# Altium footprint library micro-renesas.PCBLIB: 11 footprints (part 2 of 2)
Each footprint in its own frame and in the unit in brackets; x right, y up, seen from the top. Pads: shape width x height; smd on the part's side, far side on the other; paste and mask are expansions set on the pad; w line width, h text height; cw(c..) or ccw(c..) is an arc to the next point about the centre after c.
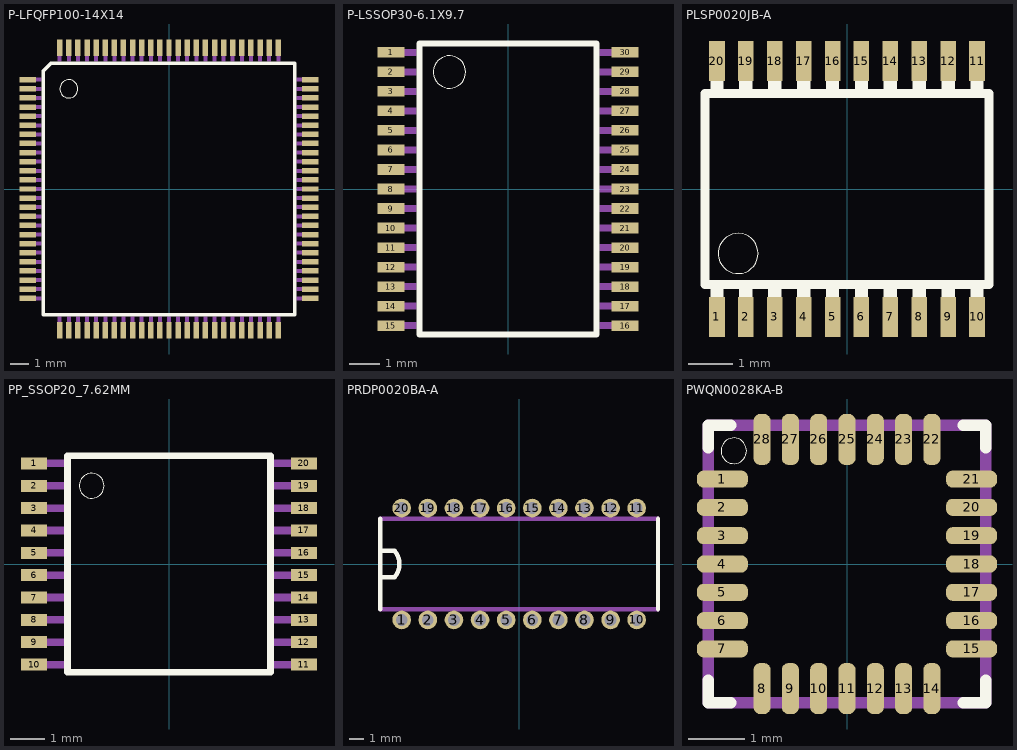
[diagram p1: the footprints below, top view; thin cyan lines are the x and y axes]

## P-LFQFP100-14X14 [mm]
pads (100):
  rect 0.9x0.3 smd: 1(-7.75,6) 2(-7.75,5.5) 3(-7.75,5) 4(-7.75,4.5) 5(-7.75,4) 6(-7.75,3.5) 7(-7.75,3) 8(-7.75,2.5) 9(-7.75,2) 10(-7.75,1.5) 11(-7.75,1) 12(-7.75,0.5) 13(-7.75,0) 14(-7.75,-0.5) 15(-7.75,-1) 16(-7.75,-1.5) 17(-7.75,-2) 18(-7.75,-2.5) 19(-7.75,-3) 20(-7.75,-3.5) 21(-7.75,-4) 22(-7.75,-4.5) 23(-7.75,-5) 24(-7.75,-5.5) 25(-7.75,-6) 51(7.75,-6) 52(7.75,-5.5) 53(7.75,-5) 54(7.75,-4.5) 55(7.75,-4) 56(7.75,-3.5) 57(7.75,-3) 58(7.75,-2.5) 59(7.75,-2) 60(7.75,-1.5) 61(7.75,-1) 62(7.75,-0.5) 63(7.75,0) 64(7.75,0.5) 65(7.75,1) 66(7.75,1.5) 67(7.75,2) 68(7.75,2.5) 69(7.75,3) 70(7.75,3.5) 71(7.75,4) 72(7.75,4.5) 73(7.75,5) 74(7.75,5.5) 75(7.75,6)
  rect 0.3x0.9 smd: 26(-6,-7.75) 27(-5.5,-7.75) 28(-5,-7.75) 29(-4.5,-7.75) 30(-4,-7.75) 31(-3.5,-7.75) 32(-3,-7.75) 33(-2.5,-7.75) 34(-2,-7.75) 35(-1.5,-7.75) 36(-1,-7.75) 37(-0.5,-7.75) 38(0,-7.75) 39(0.5,-7.75) 40(1,-7.75) 41(1.5,-7.75) 42(2,-7.75) 43(2.5,-7.75) 44(3,-7.75) 45(3.5,-7.75) 46(4,-7.75) 47(4.5,-7.75) 48(5,-7.75) 49(5.5,-7.75) 50(6,-7.75) 76(6,7.75) 77(5.5,7.75) 78(5,7.75) 79(4.5,7.75) 80(4,7.75) 81(3.5,7.75) 82(3,7.75) 83(2.5,7.75) 84(2,7.75) 85(1.5,7.75) 86(1,7.75) 87(0.5,7.75) 88(0,7.75) 89(-0.5,7.75) 90(-1,7.75) 91(-1.5,7.75) 92(-2,7.75) 93(-2.5,7.75) 94(-3,7.75) 95(-3.5,7.75) 96(-4,7.75) 97(-4.5,7.75) 98(-5,7.75) 99(-5.5,7.75) 100(-6,7.75)
Top Overlay:
  circle w0: c-5.5,5.5 r0.5
  lines w0.203: -6.898,-6.898 6.898,-6.898 6.898,6.898 -6.5,6.898 -6.898,6.5 -6.898,-6.898
Top Paste:
  rectangle: -8.175,5.863 -7.325,6.137
  rectangle: -8.175,5.362 -7.325,5.638
  rectangle: -8.175,4.863 -7.325,5.137
  rectangle: -8.175,4.362 -7.325,4.638
  rectangle: -8.175,3.863 -7.325,4.137
  rectangle: -8.175,3.362 -7.325,3.638
  rectangle: -8.175,2.863 -7.325,3.137
  rectangle: -8.175,2.362 -7.325,2.638
  rectangle: -8.175,1.863 -7.325,2.137
  rectangle: -8.175,1.362 -7.325,1.638
  rectangle: -8.175,0.863 -7.325,1.137
  rectangle: -8.175,0.362 -7.325,0.638
  rectangle: -8.175,-0.137 -7.325,0.137
  rectangle: -8.175,-0.638 -7.325,-0.362
  rectangle: -8.175,-1.137 -7.325,-0.863
  rectangle: -8.175,-1.638 -7.325,-1.362
  rectangle: -8.175,-2.137 -7.325,-1.863
  rectangle: -8.175,-2.638 -7.325,-2.362
  rectangle: -8.175,-3.137 -7.325,-2.863
  rectangle: -8.175,-3.638 -7.325,-3.362
  rectangle: -8.175,-4.137 -7.325,-3.863
  rectangle: -8.175,-4.638 -7.325,-4.362
  rectangle: -8.175,-5.137 -7.325,-4.863
  rectangle: -8.175,-5.638 -7.325,-5.362
  rectangle: -8.175,-6.137 -7.325,-5.863
  region: -5.862,-8.175 -5.862,-7.325 -6.138,-7.325 -6.138,-8.175
  region: -5.362,-8.175 -5.362,-7.325 -5.638,-7.325 -5.638,-8.175
  region: -4.862,-8.175 -4.862,-7.325 -5.138,-7.325 -5.138,-8.175
  region: -4.362,-8.175 -4.362,-7.325 -4.638,-7.325 -4.638,-8.175
  region: -3.862,-8.175 -3.862,-7.325 -4.138,-7.325 -4.138,-8.175
  region: -3.362,-8.175 -3.362,-7.325 -3.638,-7.325 -3.638,-8.175
  region: -2.862,-8.175 -2.862,-7.325 -3.138,-7.325 -3.138,-8.175
  region: -2.362,-8.175 -2.362,-7.325 -2.638,-7.325 -2.638,-8.175
  region: -1.862,-8.175 -1.862,-7.325 -2.138,-7.325 -2.138,-8.175
  region: -1.362,-8.175 -1.362,-7.325 -1.638,-7.325 -1.638,-8.175
  region: -0.862,-8.175 -0.862,-7.325 -1.138,-7.325 -1.138,-8.175
  region: -0.362,-8.175 -0.362,-7.325 -0.638,-7.325 -0.638,-8.175
  region: 0.138,-8.175 0.138,-7.325 -0.138,-7.325 -0.138,-8.175
  region: 0.638,-8.175 0.638,-7.325 0.362,-7.325 0.362,-8.175
  region: 1.138,-8.175 1.138,-7.325 0.862,-7.325 0.862,-8.175
  region: 1.638,-8.175 1.638,-7.325 1.362,-7.325 1.362,-8.175
  region: 2.138,-8.175 2.138,-7.325 1.862,-7.325 1.862,-8.175
  region: 2.638,-8.175 2.638,-7.325 2.362,-7.325 2.362,-8.175
  region: 3.138,-8.175 3.138,-7.325 2.862,-7.325 2.862,-8.175
  region: 3.638,-8.175 3.638,-7.325 3.362,-7.325 3.362,-8.175
  region: 4.138,-8.175 4.138,-7.325 3.862,-7.325 3.862,-8.175
  region: 4.638,-8.175 4.638,-7.325 4.362,-7.325 4.362,-8.175
  region: 5.138,-8.175 5.138,-7.325 4.862,-7.325 4.862,-8.175
  region: 5.638,-8.175 5.638,-7.325 5.362,-7.325 5.362,-8.175
  region: 6.138,-8.175 6.138,-7.325 5.862,-7.325 5.862,-8.175
  region: 8.175,-5.863 7.325,-5.863 7.325,-6.137 8.175,-6.137
  region: 8.175,-5.362 7.325,-5.362 7.325,-5.638 8.175,-5.638
  region: 8.175,-4.863 7.325,-4.863 7.325,-5.137 8.175,-5.137
  region: 8.175,-4.362 7.325,-4.362 7.325,-4.638 8.175,-4.638
  region: 8.175,-3.863 7.325,-3.863 7.325,-4.137 8.175,-4.137
  region: 8.175,-3.362 7.325,-3.362 7.325,-3.638 8.175,-3.638
  region: 8.175,-2.863 7.325,-2.863 7.325,-3.137 8.175,-3.137
  region: 8.175,-2.362 7.325,-2.362 7.325,-2.638 8.175,-2.638
  region: 8.175,-1.863 7.325,-1.863 7.325,-2.137 8.175,-2.137
  region: 8.175,-1.362 7.325,-1.362 7.325,-1.638 8.175,-1.638
  region: 8.175,-0.863 7.325,-0.863 7.325,-1.137 8.175,-1.137
  region: 8.175,-0.362 7.325,-0.362 7.325,-0.638 8.175,-0.638
  region: 8.175,0.137 7.325,0.137 7.325,-0.137 8.175,-0.137
  region: 8.175,0.638 7.325,0.638 7.325,0.362 8.175,0.362
  region: 8.175,1.137 7.325,1.137 7.325,0.863 8.175,0.863
  region: 8.175,1.638 7.325,1.638 7.325,1.362 8.175,1.362
  region: 8.175,2.137 7.325,2.137 7.325,1.863 8.175,1.863
  region: 8.175,2.638 7.325,2.638 7.325,2.362 8.175,2.362
  region: 8.175,3.137 7.325,3.137 7.325,2.863 8.175,2.863
  region: 8.175,3.638 7.325,3.638 7.325,3.362 8.175,3.362
  region: 8.175,4.137 7.325,4.137 7.325,3.863 8.175,3.863
  region: 8.175,4.638 7.325,4.638 7.325,4.362 8.175,4.362
  region: 8.175,5.137 7.325,5.137 7.325,4.863 8.175,4.863
  region: 8.175,5.638 7.325,5.638 7.325,5.362 8.175,5.362
  region: 8.175,6.137 7.325,6.137 7.325,5.863 8.175,5.863
  region: 5.862,8.175 5.862,7.325 6.138,7.325 6.138,8.175
  region: 5.362,8.175 5.362,7.325 5.638,7.325 5.638,8.175
  region: 4.862,8.175 4.862,7.325 5.138,7.325 5.138,8.175
  region: 4.362,8.175 4.362,7.325 4.638,7.325 4.638,8.175
  region: 3.862,8.175 3.862,7.325 4.138,7.325 4.138,8.175
  region: 3.362,8.175 3.362,7.325 3.638,7.325 3.638,8.175
  region: 2.862,8.175 2.862,7.325 3.138,7.325 3.138,8.175
  region: 2.362,8.175 2.362,7.325 2.638,7.325 2.638,8.175
  region: 1.862,8.175 1.862,7.325 2.138,7.325 2.138,8.175
  region: 1.362,8.175 1.362,7.325 1.638,7.325 1.638,8.175
  region: 0.862,8.175 0.862,7.325 1.138,7.325 1.138,8.175
  region: 0.362,8.175 0.362,7.325 0.638,7.325 0.638,8.175
  region: -0.138,8.175 -0.138,7.325 0.138,7.325 0.138,8.175
  region: -0.638,8.175 -0.638,7.325 -0.362,7.325 -0.362,8.175
  region: -1.138,8.175 -1.138,7.325 -0.862,7.325 -0.862,8.175
  region: -1.638,8.175 -1.638,7.325 -1.362,7.325 -1.362,8.175
  region: -2.138,8.175 -2.138,7.325 -1.862,7.325 -1.862,8.175
  region: -2.638,8.175 -2.638,7.325 -2.362,7.325 -2.362,8.175
  region: -3.138,8.175 -3.138,7.325 -2.862,7.325 -2.862,8.175
  region: -3.638,8.175 -3.638,7.325 -3.362,7.325 -3.362,8.175
  region: -4.138,8.175 -4.138,7.325 -3.862,7.325 -3.862,8.175
  region: -4.638,8.175 -4.638,7.325 -4.362,7.325 -4.362,8.175
  region: -5.138,8.175 -5.138,7.325 -4.862,7.325 -4.862,8.175
  region: -5.638,8.175 -5.638,7.325 -5.362,7.325 -5.362,8.175
  region: -6.138,8.175 -6.138,7.325 -5.862,7.325 -5.862,8.175
Top Solder:
  rectangle: -8.237,5.837 -7.263,6.163
  rectangle: -8.237,5.338 -7.263,5.662
  rectangle: -8.237,4.837 -7.263,5.163
  rectangle: -8.237,4.338 -7.263,4.662
  rectangle: -8.237,3.837 -7.263,4.163
  rectangle: -8.237,3.338 -7.263,3.662
  rectangle: -8.237,2.837 -7.263,3.163
  rectangle: -8.237,2.338 -7.263,2.662
  rectangle: -8.237,1.837 -7.263,2.163
  rectangle: -8.237,1.338 -7.263,1.662
  rectangle: -8.237,0.837 -7.263,1.163
  rectangle: -8.237,0.338 -7.263,0.662
  rectangle: -8.237,-0.163 -7.263,0.163
  rectangle: -8.237,-0.662 -7.263,-0.338
  rectangle: -8.237,-1.163 -7.263,-0.837
  rectangle: -8.237,-1.662 -7.263,-1.338
  rectangle: -8.237,-2.163 -7.263,-1.837
  rectangle: -8.237,-2.662 -7.263,-2.338
  rectangle: -8.237,-3.163 -7.263,-2.837
  rectangle: -8.237,-3.662 -7.263,-3.338
  rectangle: -8.237,-4.163 -7.263,-3.837
  rectangle: -8.237,-4.662 -7.263,-4.338
  rectangle: -8.237,-5.163 -7.263,-4.837
  rectangle: -8.237,-5.662 -7.263,-5.338
  rectangle: -8.237,-6.163 -7.263,-5.837
  region: -5.837,-8.237 -5.837,-7.263 -6.163,-7.263 -6.163,-8.237
  region: -5.337,-8.238 -5.337,-7.262 -5.663,-7.262 -5.663,-8.238
  region: -4.837,-8.237 -4.837,-7.263 -5.163,-7.263 -5.163,-8.237
  region: -4.337,-8.238 -4.337,-7.262 -4.663,-7.262 -4.663,-8.238
  region: -3.837,-8.237 -3.837,-7.263 -4.163,-7.263 -4.163,-8.237
  region: -3.337,-8.238 -3.337,-7.262 -3.663,-7.262 -3.663,-8.238
  region: -2.837,-8.237 -2.837,-7.263 -3.163,-7.263 -3.163,-8.237
  region: -2.337,-8.238 -2.337,-7.262 -2.663,-7.262 -2.663,-8.238
  region: -1.837,-8.237 -1.837,-7.263 -2.163,-7.263 -2.163,-8.237
  region: -1.337,-8.238 -1.337,-7.262 -1.663,-7.262 -1.663,-8.238
  region: -0.837,-8.237 -0.837,-7.263 -1.163,-7.263 -1.163,-8.237
  region: -0.337,-8.238 -0.337,-7.262 -0.663,-7.262 -0.663,-8.238
  region: 0.163,-8.237 0.163,-7.263 -0.163,-7.263 -0.163,-8.237
  region: 0.663,-8.238 0.663,-7.262 0.337,-7.262 0.337,-8.238
  region: 1.163,-8.237 1.163,-7.263 0.837,-7.263 0.837,-8.237
  region: 1.663,-8.238 1.663,-7.262 1.337,-7.262 1.337,-8.238
  region: 2.163,-8.237 2.163,-7.263 1.837,-7.263 1.837,-8.237
  region: 2.663,-8.238 2.663,-7.262 2.337,-7.262 2.337,-8.238
  region: 3.163,-8.237 3.163,-7.263 2.837,-7.263 2.837,-8.237
  region: 3.663,-8.238 3.663,-7.262 3.337,-7.262 3.337,-8.238
  region: 4.163,-8.237 4.163,-7.263 3.837,-7.263 3.837,-8.237
  region: 4.663,-8.238 4.663,-7.262 4.337,-7.262 4.337,-8.238
  region: 5.163,-8.237 5.163,-7.263 4.837,-7.263 4.837,-8.237
  region: 5.663,-8.238 5.663,-7.262 5.337,-7.262 5.337,-8.238
  region: 6.163,-8.237 6.163,-7.263 5.837,-7.263 5.837,-8.237
  region: 8.237,-5.837 7.263,-5.837 7.263,-6.163 8.237,-6.163
  region: 8.237,-5.338 7.263,-5.338 7.263,-5.662 8.237,-5.662
  region: 8.237,-4.837 7.263,-4.837 7.263,-5.163 8.237,-5.163
  region: 8.237,-4.338 7.263,-4.338 7.263,-4.662 8.237,-4.662
  region: 8.237,-3.837 7.263,-3.837 7.263,-4.163 8.237,-4.163
  region: 8.237,-3.338 7.263,-3.338 7.263,-3.662 8.237,-3.662
  region: 8.237,-2.837 7.263,-2.837 7.263,-3.163 8.237,-3.163
  region: 8.237,-2.338 7.263,-2.338 7.263,-2.662 8.237,-2.662
  region: 8.237,-1.837 7.263,-1.837 7.263,-2.163 8.237,-2.163
  region: 8.237,-1.338 7.263,-1.338 7.263,-1.662 8.237,-1.662
  region: 8.237,-0.837 7.263,-0.837 7.263,-1.163 8.237,-1.163
  region: 8.237,-0.338 7.263,-0.338 7.263,-0.662 8.237,-0.662
  region: 8.237,0.163 7.263,0.163 7.263,-0.163 8.237,-0.163
  region: 8.237,0.662 7.263,0.662 7.263,0.338 8.237,0.338
  region: 8.237,1.163 7.263,1.163 7.263,0.837 8.237,0.837
  region: 8.237,1.662 7.263,1.662 7.263,1.338 8.237,1.338
  region: 8.237,2.163 7.263,2.163 7.263,1.837 8.237,1.837
  region: 8.237,2.662 7.263,2.662 7.263,2.338 8.237,2.338
  region: 8.237,3.163 7.263,3.163 7.263,2.837 8.237,2.837
  region: 8.237,3.662 7.263,3.662 7.263,3.338 8.237,3.338
  region: 8.237,4.163 7.263,4.163 7.263,3.837 8.237,3.837
  region: 8.237,4.662 7.263,4.662 7.263,4.338 8.237,4.338
  region: 8.237,5.163 7.263,5.163 7.263,4.837 8.237,4.837
  region: 8.237,5.662 7.263,5.662 7.263,5.338 8.237,5.338
  region: 8.237,6.163 7.263,6.163 7.263,5.837 8.237,5.837
  region: 5.837,8.237 5.837,7.263 6.163,7.263 6.163,8.237
  region: 5.337,8.238 5.337,7.262 5.663,7.262 5.663,8.238
  region: 4.837,8.237 4.837,7.263 5.163,7.263 5.163,8.237
  region: 4.337,8.238 4.337,7.262 4.663,7.262 4.663,8.238
  region: 3.837,8.237 3.837,7.263 4.163,7.263 4.163,8.237
  region: 3.337,8.238 3.337,7.262 3.663,7.262 3.663,8.238
  region: 2.837,8.237 2.837,7.263 3.163,7.263 3.163,8.237
  region: 2.337,8.238 2.337,7.262 2.663,7.262 2.663,8.238
  region: 1.837,8.237 1.837,7.263 2.163,7.263 2.163,8.237
  region: 1.337,8.238 1.337,7.262 1.663,7.262 1.663,8.238
  region: 0.837,8.237 0.837,7.263 1.163,7.263 1.163,8.237
  region: 0.337,8.238 0.337,7.262 0.663,7.262 0.663,8.238
  region: -0.163,8.237 -0.163,7.263 0.163,7.263 0.163,8.237
  region: -0.663,8.238 -0.663,7.262 -0.337,7.262 -0.337,8.238
  region: -1.163,8.237 -1.163,7.263 -0.837,7.263 -0.837,8.237
  region: -1.663,8.238 -1.663,7.262 -1.337,7.262 -1.337,8.238
  region: -2.163,8.237 -2.163,7.263 -1.837,7.263 -1.837,8.237
  region: -2.663,8.238 -2.663,7.262 -2.337,7.262 -2.337,8.238
  region: -3.163,8.237 -3.163,7.263 -2.837,7.263 -2.837,8.237
  region: -3.663,8.238 -3.663,7.262 -3.337,7.262 -3.337,8.238
  region: -4.163,8.237 -4.163,7.263 -3.837,7.263 -3.837,8.237
  region: -4.663,8.238 -4.663,7.262 -4.337,7.262 -4.337,8.238
  region: -5.163,8.237 -5.163,7.263 -4.837,7.263 -4.837,8.237
  region: -5.663,8.238 -5.663,7.262 -5.337,7.262 -5.337,8.238
  region: -6.163,8.237 -6.163,7.263 -5.837,7.263 -5.837,8.237
Mechanical 16:
  rectangle: -8,5.89 -7,6.11
  rectangle: -8,5.39 -7,5.61
  rectangle: -8,4.89 -7,5.11
  rectangle: -8,4.39 -7,4.61
  rectangle: -8,3.89 -7,4.11
  rectangle: -8,3.39 -7,3.61
  rectangle: -8,2.89 -7,3.11
  rectangle: -8,2.39 -7,2.61
  rectangle: -8,1.89 -7,2.11
  rectangle: -8,1.39 -7,1.61
  rectangle: -8,0.89 -7,1.11
  rectangle: -8,0.39 -7,0.61
  rectangle: -8,-0.11 -7,0.11
  rectangle: -8,-0.61 -7,-0.39
  rectangle: -8,-1.11 -7,-0.89
  rectangle: -8,-1.61 -7,-1.39
  rectangle: -8,-2.11 -7,-1.89
  rectangle: -8,-2.61 -7,-2.39
  rectangle: -8,-3.11 -7,-2.89
  rectangle: -8,-3.61 -7,-3.39
  rectangle: -8,-4.11 -7,-3.89
  rectangle: -8,-4.61 -7,-4.39
  rectangle: -8,-5.11 -7,-4.89
  rectangle: -8,-5.61 -7,-5.39
  rectangle: -8,-6.11 -7,-5.89
  rectangle: -6.11,-8 -5.89,-7
  rectangle: -5.61,-8 -5.39,-7
  rectangle: -5.11,-8 -4.89,-7
  rectangle: -4.61,-8 -4.39,-7
  rectangle: -4.11,-8 -3.89,-7
  rectangle: -3.61,-8 -3.39,-7
  rectangle: -3.11,-8 -2.89,-7
  rectangle: -2.61,-8 -2.39,-7
  rectangle: -2.11,-8 -1.89,-7
  rectangle: -1.61,-8 -1.39,-7
  rectangle: -1.11,-8 -0.89,-7
  rectangle: -0.61,-8 -0.39,-7
  rectangle: -0.11,-8 0.11,-7
  rectangle: 0.39,-8 0.61,-7
  rectangle: 0.89,-8 1.11,-7
  rectangle: 1.39,-8 1.61,-7
  rectangle: 1.89,-8 2.11,-7
  rectangle: 2.39,-8 2.61,-7
  rectangle: 2.89,-8 3.11,-7
  rectangle: 3.39,-8 3.61,-7
  rectangle: 3.89,-8 4.11,-7
  rectangle: 4.39,-8 4.61,-7
  rectangle: 4.89,-8 5.11,-7
  rectangle: 5.39,-8 5.61,-7
  rectangle: 5.89,-8 6.11,-7
  rectangle: 7,-6.11 8,-5.89
  rectangle: 7,-5.61 8,-5.39
  rectangle: 7,-5.11 8,-4.89
  rectangle: 7,-4.61 8,-4.39
  rectangle: 7,-4.11 8,-3.89
  rectangle: 7,-3.61 8,-3.39
  rectangle: 7,-3.11 8,-2.89
  rectangle: 7,-2.61 8,-2.39
  rectangle: 7,-2.11 8,-1.89
  rectangle: 7,-1.61 8,-1.39
  rectangle: 7,-1.11 8,-0.89
  rectangle: 7,-0.61 8,-0.39
  rectangle: 7,-0.11 8,0.11
  rectangle: 7,0.39 8,0.61
  rectangle: 7,0.89 8,1.11
  rectangle: 7,1.39 8,1.61
  rectangle: 7,1.89 8,2.11
  rectangle: 7,2.39 8,2.61
  rectangle: 7,2.89 8,3.11
  rectangle: 7,3.39 8,3.61
  rectangle: 7,3.89 8,4.11
  rectangle: 7,4.39 8,4.61
  rectangle: 7,4.89 8,5.11
  rectangle: 7,5.39 8,5.61
  rectangle: 7,5.89 8,6.11
  rectangle: 5.89,7 6.11,8
  rectangle: 5.39,7 5.61,8
  rectangle: 4.89,7 5.11,8
  rectangle: 4.39,7 4.61,8
  rectangle: 3.89,7 4.11,8
  rectangle: 3.39,7 3.61,8
  rectangle: 2.89,7 3.11,8
  rectangle: 2.39,7 2.61,8
  rectangle: 1.89,7 2.11,8
  rectangle: 1.39,7 1.61,8
  rectangle: 0.89,7 1.11,8
  rectangle: 0.39,7 0.61,8
  rectangle: -0.11,7 0.11,8
  rectangle: -0.61,7 -0.39,8
  rectangle: -1.11,7 -0.89,8
  rectangle: -1.61,7 -1.39,8
  rectangle: -2.11,7 -1.89,8
  rectangle: -2.61,7 -2.39,8
  rectangle: -3.11,7 -2.89,8
  rectangle: -3.61,7 -3.39,8
  rectangle: -4.11,7 -3.89,8
  rectangle: -4.61,7 -4.39,8
  rectangle: -5.11,7 -4.89,8
  rectangle: -5.61,7 -5.39,8
  rectangle: -6.11,7 -5.89,8

## P-LSSOP30-6.1X9.7 [mm]
pads (30):
  rect 0.9x0.35 smd: 1(-3.9,4.55) 2(-3.9,3.9) 3(-3.9,3.25) 4(-3.9,2.6) 5(-3.9,1.95) 6(-3.9,1.3) 7(-3.9,0.65) 8(-3.9,0) 9(-3.9,-0.65) 10(-3.9,-1.3) 11(-3.9,-1.95) 12(-3.9,-2.6) 13(-3.9,-3.25) 14(-3.9,-3.9) 15(-3.9,-4.55) 16(3.9,-4.55) 17(3.9,-3.9) 18(3.9,-3.25) 19(3.9,-2.6) 20(3.9,-1.95) 21(3.9,-1.3) 22(3.9,-0.65) 23(3.9,0) 24(3.9,0.65) 25(3.9,1.3) 26(3.9,1.95) 27(3.9,2.6) 28(3.9,3.25) 29(3.9,3.9) 30(3.9,4.55)
Top Overlay:
  circle w0: c-1.95,3.9 r0.538
  lines w0.203: -2.948,-4.848 2.948,-4.848 2.948,4.848 -2.948,4.848 -2.948,-4.848
Top Paste:
  rectangle: -4.312,4.4 -3.5,4.7
  rectangle: -4.312,3.75 -3.5,4.05
  rectangle: -4.312,3.1 -3.5,3.4
  rectangle: -4.312,2.45 -3.5,2.75
  rectangle: -4.312,1.8 -3.5,2.1
  rectangle: -4.312,1.15 -3.5,1.45
  rectangle: -4.312,0.5 -3.5,0.8
  rectangle: -4.312,-0.15 -3.5,0.15
  rectangle: -4.312,-0.8 -3.5,-0.5
  rectangle: -4.312,-1.45 -3.5,-1.15
  rectangle: -4.312,-2.1 -3.5,-1.8
  rectangle: -4.312,-2.75 -3.5,-2.45
  rectangle: -4.312,-3.4 -3.5,-3.1
  rectangle: -4.312,-4.05 -3.5,-3.75
  rectangle: -4.312,-4.7 -3.5,-4.4
  region: 4.312,-4.4 3.5,-4.4 3.5,-4.7 4.312,-4.7
  region: 4.312,-3.75 3.5,-3.75 3.5,-4.05 4.312,-4.05
  region: 4.312,-3.1 3.5,-3.1 3.5,-3.4 4.312,-3.4
  region: 4.312,-2.45 3.5,-2.45 3.5,-2.75 4.312,-2.75
  region: 4.312,-1.8 3.5,-1.8 3.5,-2.1 4.312,-2.1
  region: 4.312,-1.15 3.5,-1.15 3.5,-1.45 4.312,-1.45
  region: 4.312,-0.5 3.5,-0.5 3.5,-0.8 4.312,-0.8
  region: 4.312,0.15 3.5,0.15 3.5,-0.15 4.312,-0.15
  region: 4.312,0.8 3.5,0.8 3.5,0.5 4.312,0.5
  region: 4.312,1.45 3.5,1.45 3.5,1.15 4.312,1.15
  region: 4.312,2.1 3.5,2.1 3.5,1.8 4.312,1.8
  region: 4.312,2.75 3.5,2.75 3.5,2.45 4.312,2.45
  region: 4.312,3.4 3.5,3.4 3.5,3.1 4.312,3.1
  region: 4.312,4.05 3.5,4.05 3.5,3.75 4.312,3.75
  region: 4.312,4.7 3.5,4.7 3.5,4.4 4.312,4.4
Top Solder:
  rectangle: -4.425,4.338 -3.375,4.763
  rectangle: -4.425,3.688 -3.375,4.113
  rectangle: -4.425,3.038 -3.375,3.463
  rectangle: -4.425,2.388 -3.375,2.813
  rectangle: -4.425,1.738 -3.375,2.163
  rectangle: -4.425,1.088 -3.375,1.513
  rectangle: -4.425,0.437 -3.375,0.863
  rectangle: -4.425,-0.213 -3.375,0.213
  rectangle: -4.425,-0.863 -3.375,-0.437
  rectangle: -4.425,-1.513 -3.375,-1.088
  rectangle: -4.425,-2.163 -3.375,-1.738
  rectangle: -4.425,-2.813 -3.375,-2.388
  rectangle: -4.425,-3.463 -3.375,-3.038
  rectangle: -4.425,-4.113 -3.375,-3.688
  rectangle: -4.425,-4.763 -3.375,-4.338
  region: 4.425,-4.338 3.375,-4.338 3.375,-4.763 4.425,-4.763
  region: 4.425,-3.688 3.375,-3.688 3.375,-4.113 4.425,-4.113
  region: 4.425,-3.038 3.375,-3.038 3.375,-3.463 4.425,-3.463
  region: 4.425,-2.388 3.375,-2.388 3.375,-2.813 4.425,-2.813
  region: 4.425,-1.738 3.375,-1.738 3.375,-2.163 4.425,-2.163
  region: 4.425,-1.088 3.375,-1.088 3.375,-1.513 4.425,-1.513
  region: 4.425,-0.437 3.375,-0.437 3.375,-0.863 4.425,-0.863
  region: 4.425,0.213 3.375,0.213 3.375,-0.213 4.425,-0.213
  region: 4.425,0.863 3.375,0.863 3.375,0.437 4.425,0.437
  region: 4.425,1.513 3.375,1.513 3.375,1.088 4.425,1.088
  region: 4.425,2.163 3.375,2.163 3.375,1.738 4.425,1.738
  region: 4.425,2.813 3.375,2.813 3.375,2.388 4.425,2.388
  region: 4.425,3.463 3.375,3.463 3.375,3.038 4.425,3.038
  region: 4.425,4.113 3.375,4.113 3.375,3.688 4.425,3.688
  region: 4.425,4.763 3.375,4.763 3.375,4.338 4.425,4.338
Mechanical 16:
  rectangle: -4.15,4.44 -3.05,4.66
  rectangle: -4.15,3.79 -3.05,4.01
  rectangle: -4.15,3.14 -3.05,3.36
  rectangle: -4.15,2.49 -3.05,2.71
  rectangle: -4.15,1.84 -3.05,2.06
  rectangle: -4.15,1.19 -3.05,1.41
  rectangle: -4.15,0.54 -3.05,0.76
  rectangle: -4.15,-0.11 -3.05,0.11
  rectangle: -4.15,-0.76 -3.05,-0.54
  rectangle: -4.15,-1.41 -3.05,-1.19
  rectangle: -4.15,-2.06 -3.05,-1.84
  rectangle: -4.15,-2.71 -3.05,-2.49
  rectangle: -4.15,-3.36 -3.05,-3.14
  rectangle: -4.15,-4.01 -3.05,-3.79
  rectangle: -4.15,-4.66 -3.05,-4.44
  rectangle: 3.05,-4.66 4.15,-4.44
  rectangle: 3.05,-4.01 4.15,-3.79
  rectangle: 3.05,-3.36 4.15,-3.14
  rectangle: 3.05,-2.71 4.15,-2.49
  rectangle: 3.05,-2.06 4.15,-1.84
  rectangle: 3.05,-1.41 4.15,-1.19
  rectangle: 3.05,-0.76 4.15,-0.54
  rectangle: 3.05,-0.11 4.15,0.11
  rectangle: 3.05,0.54 4.15,0.76
  rectangle: 3.05,1.19 4.15,1.41
  rectangle: 3.05,1.84 4.15,2.06
  rectangle: 3.05,2.49 4.15,2.71
  rectangle: 3.05,3.14 4.15,3.36
  rectangle: 3.05,3.79 4.15,4.01
  rectangle: 3.05,4.44 4.15,4.66

## PLSP0020JB-A [mm]
pads (20):
  rect 0.35x0.9 smd: 1(-2.925,-2.875) 2(-2.275,-2.875) 3(-1.625,-2.875) 4(-0.975,-2.875) 5(-0.325,-2.875) 6(0.325,-2.875) 7(0.975,-2.875) 8(1.625,-2.875) 9(2.275,-2.875) 10(2.925,-2.875) 11(2.925,2.875) 12(2.275,2.875) 13(1.625,2.875) 14(0.975,2.875) 15(0.325,2.875) 16(-0.325,2.875) 17(-0.975,2.875) 18(-1.625,2.875) 19(-2.275,2.875) 20(-2.925,2.875)
Top Overlay:
  circle w0: c-2.45,-1.45 r0.451
  rectangle: -3.075,-2.6 -2.775,-2.225
  rectangle: -2.425,-2.6 -2.125,-2.225
  rectangle: -1.775,-2.6 -1.475,-2.225
  rectangle: -1.125,-2.6 -0.825,-2.225
  rectangle: -0.475,-2.6 -0.175,-2.225
  rectangle: 0.175,-2.6 0.475,-2.225
  rectangle: 0.825,-2.6 1.125,-2.225
  rectangle: 1.475,-2.6 1.775,-2.225
  rectangle: 2.125,-2.6 2.425,-2.225
  rectangle: 2.775,-2.6 3.075,-2.225
  region: 3.075,2.6 2.775,2.6 2.775,2.225 3.075,2.225
  region: 2.425,2.6 2.125,2.6 2.125,2.225 2.425,2.225
  region: 1.775,2.6 1.475,2.6 1.475,2.225 1.775,2.225
  region: 1.125,2.6 0.825,2.6 0.825,2.225 1.125,2.225
  region: 0.475,2.6 0.175,2.6 0.175,2.225 0.475,2.225
  region: -0.175,2.6 -0.475,2.6 -0.475,2.225 -0.175,2.225
  region: -0.825,2.6 -1.125,2.6 -1.125,2.225 -0.825,2.225
  region: -1.475,2.6 -1.775,2.6 -1.775,2.225 -1.475,2.225
  region: -2.125,2.6 -2.425,2.6 -2.425,2.225 -2.125,2.225
  region: -2.775,2.6 -3.075,2.6 -3.075,2.225 -2.775,2.225
  lines w0.203: -3.2,-2.15 3.2,-2.15 3.2,2.15 -3.2,2.15 -3.2,-2.15
Top Solder:
  rectangle: -3.125,-3.35 -2.725,-2.4
  rectangle: -2.475,-3.35 -2.075,-2.4
  rectangle: -1.825,-3.35 -1.425,-2.4
  rectangle: -1.175,-3.35 -0.775,-2.4
  rectangle: -0.525,-3.35 -0.125,-2.4
  rectangle: 0.125,-3.35 0.525,-2.4
  rectangle: 0.775,-3.35 1.175,-2.4
  rectangle: 1.425,-3.35 1.825,-2.4
  rectangle: 2.075,-3.35 2.475,-2.4
  rectangle: 2.725,-3.35 3.125,-2.4
  region: 3.125,3.35 2.725,3.35 2.725,2.4 3.125,2.4
  region: 2.475,3.35 2.075,3.35 2.075,2.4 2.475,2.4
  region: 1.825,3.35 1.425,3.35 1.425,2.4 1.825,2.4
  region: 1.175,3.35 0.775,3.35 0.775,2.4 1.175,2.4
  region: 0.525,3.35 0.125,3.35 0.125,2.4 0.525,2.4
  region: -0.125,3.35 -0.525,3.35 -0.525,2.4 -0.125,2.4
  region: -0.775,3.35 -1.175,3.35 -1.175,2.4 -0.775,2.4
  region: -1.425,3.35 -1.825,3.35 -1.825,2.4 -1.425,2.4
  region: -2.075,3.35 -2.475,3.35 -2.475,2.4 -2.075,2.4
  region: -2.725,3.35 -3.125,3.35 -3.125,2.4 -2.725,2.4
Mechanical 16:
  rectangle: -3.075,-3.3 -2.775,-2.6
  rectangle: -2.425,-3.3 -2.125,-2.6
  rectangle: -1.775,-3.3 -1.475,-2.6
  rectangle: -1.125,-3.3 -0.825,-2.6
  rectangle: -0.475,-3.3 -0.175,-2.6
  rectangle: 0.175,-3.3 0.475,-2.6
  rectangle: 0.825,-3.3 1.125,-2.6
  rectangle: 1.475,-3.3 1.775,-2.6
  rectangle: 2.125,-3.3 2.425,-2.6
  rectangle: 2.775,-3.3 3.075,-2.6
  region: 3.075,3.3 2.775,3.3 2.775,2.6 3.075,2.6
  region: 2.425,3.3 2.125,3.3 2.125,2.6 2.425,2.6
  region: 1.775,3.3 1.475,3.3 1.475,2.6 1.775,2.6
  region: 1.125,3.3 0.825,3.3 0.825,2.6 1.125,2.6
  region: 0.475,3.3 0.175,3.3 0.175,2.6 0.475,2.6
  region: -0.175,3.3 -0.475,3.3 -0.475,2.6 -0.175,2.6
  region: -0.825,3.3 -1.125,3.3 -1.125,2.6 -0.825,2.6
  region: -1.475,3.3 -1.775,3.3 -1.775,2.6 -1.475,2.6
  region: -2.125,3.3 -2.425,3.3 -2.425,2.6 -2.125,2.6
  region: -2.775,3.3 -3.075,3.3 -3.075,2.6 -2.775,2.6

## PP_SSOP20_7.62MM [mm]
pads (20):
  rect 0.75x0.35 smd: 1(-3.925,2.925) 2(-3.925,2.275) 3(-3.925,1.625) 4(-3.925,0.975) 5(-3.925,0.325) 6(-3.925,-0.325) 7(-3.925,-0.975) 8(-3.925,-1.625) 9(-3.925,-2.275) 10(-3.925,-2.925) 11(3.925,-2.925) 12(3.925,-2.275) 13(3.925,-1.625) 14(3.925,-0.975) 15(3.925,-0.325) 16(3.925,0.325) 17(3.925,0.975) 18(3.925,1.625) 19(3.925,2.275) 20(3.925,2.925)
Top Overlay:
  circle w0: c-2.25,2.275 r0.363
  lines w0.203: -2.948,-3.148 2.948,-3.148 2.948,3.148 -2.948,3.148 -2.948,-3.148
Top Paste:
  rectangle: -4.263,2.775 -3.587,3.075
  rectangle: -4.263,2.125 -3.587,2.425
  rectangle: -4.263,1.475 -3.587,1.775
  rectangle: -4.263,0.825 -3.587,1.125
  rectangle: -4.263,0.175 -3.587,0.475
  rectangle: -4.263,-0.475 -3.587,-0.175
  rectangle: -4.263,-1.125 -3.587,-0.825
  rectangle: -4.263,-1.775 -3.587,-1.475
  rectangle: -4.263,-2.425 -3.587,-2.125
  rectangle: -4.263,-3.075 -3.587,-2.775
  region: 4.263,-2.775 3.587,-2.775 3.587,-3.075 4.263,-3.075
  region: 4.263,-2.125 3.587,-2.125 3.587,-2.425 4.263,-2.425
  region: 4.263,-1.475 3.587,-1.475 3.587,-1.775 4.263,-1.775
  region: 4.263,-0.825 3.587,-0.825 3.587,-1.125 4.263,-1.125
  region: 4.263,-0.175 3.587,-0.175 3.587,-0.475 4.263,-0.475
  region: 4.263,0.475 3.587,0.475 3.587,0.175 4.263,0.175
  region: 4.263,1.125 3.587,1.125 3.587,0.825 4.263,0.825
  region: 4.263,1.775 3.587,1.775 3.587,1.475 4.263,1.475
  region: 4.263,2.425 3.587,2.425 3.587,2.125 4.263,2.125
  region: 4.263,3.075 3.587,3.075 3.587,2.775 4.263,2.775
Top Solder:
  rectangle: -4.362,2.725 -3.5,3.125
  rectangle: -4.362,2.075 -3.5,2.475
  rectangle: -4.362,1.425 -3.5,1.825
  rectangle: -4.362,0.775 -3.5,1.175
  rectangle: -4.362,0.125 -3.5,0.525
  rectangle: -4.362,-0.525 -3.5,-0.125
  rectangle: -4.362,-1.175 -3.5,-0.775
  rectangle: -4.362,-1.825 -3.5,-1.425
  rectangle: -4.362,-2.475 -3.5,-2.075
  rectangle: -4.362,-3.125 -3.5,-2.725
  region: 4.362,-2.725 3.5,-2.725 3.5,-3.125 4.362,-3.125
  region: 4.362,-2.075 3.5,-2.075 3.5,-2.475 4.362,-2.475
  region: 4.362,-1.425 3.5,-1.425 3.5,-1.825 4.362,-1.825
  region: 4.362,-0.775 3.5,-0.775 3.5,-1.175 4.362,-1.175
  region: 4.362,-0.125 3.5,-0.125 3.5,-0.525 4.362,-0.525
  region: 4.362,0.525 3.5,0.525 3.5,0.125 4.362,0.125
  region: 4.362,1.175 3.5,1.175 3.5,0.775 4.362,0.775
  region: 4.362,1.825 3.5,1.825 3.5,1.425 4.362,1.425
  region: 4.362,2.475 3.5,2.475 3.5,2.075 4.362,2.075
  region: 4.362,3.125 3.5,3.125 3.5,2.725 4.362,2.725
Mechanical 16:
  rectangle: -4.1,2.815 -3.05,3.035
  rectangle: -4.1,2.165 -3.05,2.385
  rectangle: -4.1,1.515 -3.05,1.735
  rectangle: -4.1,0.865 -3.05,1.085
  rectangle: -4.1,0.215 -3.05,0.435
  rectangle: -4.1,-0.435 -3.05,-0.215
  rectangle: -4.1,-1.085 -3.05,-0.865
  rectangle: -4.1,-1.735 -3.05,-1.515
  rectangle: -4.1,-2.385 -3.05,-2.165
  rectangle: -4.1,-3.035 -3.05,-2.815
  rectangle: 3.05,-3.035 4.1,-2.815
  rectangle: 3.05,-2.385 4.1,-2.165
  rectangle: 3.05,-1.735 4.1,-1.515
  rectangle: 3.05,-1.085 4.1,-0.865
  rectangle: 3.05,-0.435 4.1,-0.215
  rectangle: 3.05,0.215 4.1,0.435
  rectangle: 3.05,0.865 4.1,1.085
  rectangle: 3.05,1.515 4.1,1.735
  rectangle: 3.05,2.165 4.1,2.385
  rectangle: 3.05,2.815 4.1,3.035

## PRDP0020BA-A [mil]
pads (20):
  round 50 hole 31.5: 1(-315,-150) 2(-245,-150) 3(-175,-150) 4(-105,-150) 5(-35,-150) 6(35,-150) 7(105,-150) 8(175,-150) 9(245,-150) 10(315,-150) 11(315,150) 12(245,150) 13(175,150) 14(105,150) 15(35,150) 16(-35,150) 17(-105,150) 18(-175,150) 19(-245,150) 20(-315,150)
Top Overlay:
  lines w11.94: -372.05,-121.06 -372.05,121.06 ; -371.06,-35.43 -334.09,-35.43 ccw(c-376.75,0) -334.09,35.43 -371.06,35.43 ; 372.05,-121.06 372.05,121.06
Mechanical 16:
  lines w11.94: -372.05,-121.06 372.05,-121.06 ; -372.05,121.06 372.05,121.06

## PWQN0028KA-B [mm]
pads (28):
  rrect75% 0.9x0.3 smd: 1(-2.2,1.5) 2(-2.2,1) 3(-2.2,0.5) 4(-2.2,0) 5(-2.2,-0.5) 6(-2.2,-1) 7(-2.2,-1.5) 15(2.2,-1.5) 16(2.2,-1) 17(2.2,-0.5) 18(2.2,0) 19(2.2,0.5) 20(2.2,1) 21(2.2,1.5)
  rrect75% 0.3x0.9 smd: 8(-1.5,-2.2) 9(-1,-2.2) 10(-0.5,-2.2) 11(0,-2.2) 12(0.5,-2.2) 13(1,-2.2) 14(1.5,-2.2) 22(1.5,2.2) 23(1,2.2) 24(0.5,2.2) 25(0,2.2) 26(-0.5,2.2) 27(-1,2.2) 28(-1.5,2.2)
Top Overlay:
  circle w0: c-2,2 r0.226
  lines w0.203: -2.45,-2.05 -2.45,-2.45 -2.05,-2.45 ; -2.45,2.05 -2.45,2.45 -2.05,2.45 ; 2.05,-2.45 2.45,-2.45 2.45,-2.05 ; 2.05,2.45 2.45,2.45 2.45,2.05
Top Paste:
  lines w0.25: -2.5,-1.5 -1.9,-1.5 ; -2.5,-1 -1.9,-1 ; -2.5,-0.5 -1.9,-0.5 ; -2.5,0 -1.9,0 ; -2.5,0.5 -1.9,0.5 ; -2.5,1 -1.9,1 ; -2.5,1.5 -1.9,1.5 ; -1.5,-2.5 -1.5,-1.9 ; -1.5,1.9 -1.5,2.5 ; -1,-2.5 -1,-1.9 ; -1,1.9 -1,2.5 ; -0.5,-2.5 -0.5,-1.9 ; -0.5,1.9 -0.5,2.5 ; 0,-2.5 0,-1.9 ; 0,1.9 0,2.5 ; 0.5,-2.5 0.5,-1.9 ; 0.5,1.9 0.5,2.5 ; 1,-2.5 1,-1.9 ; 1,1.9 1,2.5 ; 1.5,-2.5 1.5,-1.9 ; 1.5,1.9 1.5,2.5 ; 1.9,-1.5 2.5,-1.5 ; 1.9,-1 2.5,-1 ; 1.9,-0.5 2.5,-0.5 ; 1.9,0 2.5,0 ; 1.9,0.5 2.5,0.5 ; 1.9,1 2.5,1 ; 1.9,1.5 2.5,1.5
Top Solder:
  lines w0.32: -2.525,-1.5 -1.875,-1.5 ; -2.525,-1 -1.875,-1 ; -2.525,-0.5 -1.875,-0.5 ; -2.525,0 -1.875,0 ; -2.525,0.5 -1.875,0.5 ; -2.525,1 -1.875,1 ; -2.525,1.5 -1.875,1.5 ; -1.5,-2.525 -1.5,-1.875 ; -1.5,1.875 -1.5,2.525 ; -1,-2.525 -1,-1.875 ; -1,1.875 -1,2.525 ; -0.5,-2.525 -0.5,-1.875 ; -0.5,1.875 -0.5,2.525 ; 0,-2.525 0,-1.875 ; 0,1.875 0,2.525 ; 0.5,-2.525 0.5,-1.875 ; 0.5,1.875 0.5,2.525 ; 1,-2.525 1,-1.875 ; 1,1.875 1,2.525 ; 1.5,-2.525 1.5,-1.875 ; 1.5,1.875 1.5,2.525 ; 1.875,-1.5 2.525,-1.5 ; 1.875,-1 2.525,-1 ; 1.875,-0.5 2.525,-0.5 ; 1.875,0 2.525,0 ; 1.875,0.5 2.525,0.5 ; 1.875,1 2.525,1 ; 1.875,1.5 2.525,1.5
Mechanical 16:
  lines w0.203: -2.45,-2.45 2.45,-2.45 2.45,2.45 -2.45,2.45 -2.45,-2.45